# Altium footprint library DIN41612.PcbLib: 1 footprints
Each footprint in its own frame and in the unit in brackets; x right, y up, seen from the top. Pads: shape width x height; smd on the part's side, far side on the other; paste and mask are expansions set on the pad; w line width, h text height; cw(c..) or ccw(c..) is an arc to the next point about the centre after c.
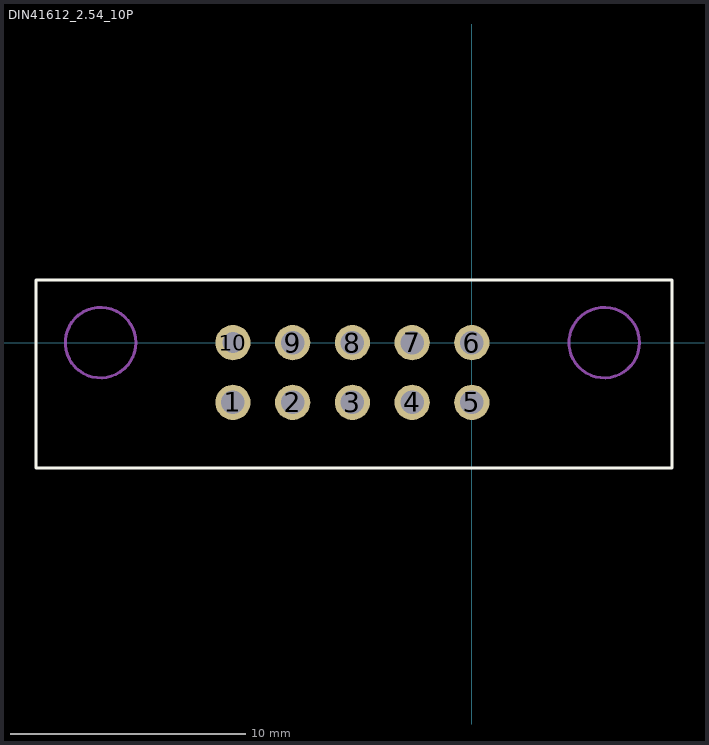
[diagram p0: the footprint, top view; thin cyan lines are the x and y axes]

## DIN41612_2.54_10P [mm]
pads (10):
  round 1.5 hole 1: 1(-10.16,-2.54) 2(-7.62,-2.54) 3(-5.08,-2.54) 4(-2.54,-2.54) 5(0,-2.54) 6(0,0) 7(-2.54,0) 8(-5.08,0) 9(-7.62,0)
  round 1.5 hole 0.9: 10(-10.16,0)
Top Overlay:
  lines w0.127: -18.542,-5.334 8.518,-5.334 8.518,2.666 -18.542,2.666 -18.542,-5.334
Mechanical 1:
  circle w0.127: c-15.79,0 r1.5
  circle w0.127: c5.63,0 r1.5